# EAGLE library part STM32F4X1CX_BLACKPILL (library FansElectronics-Modul)
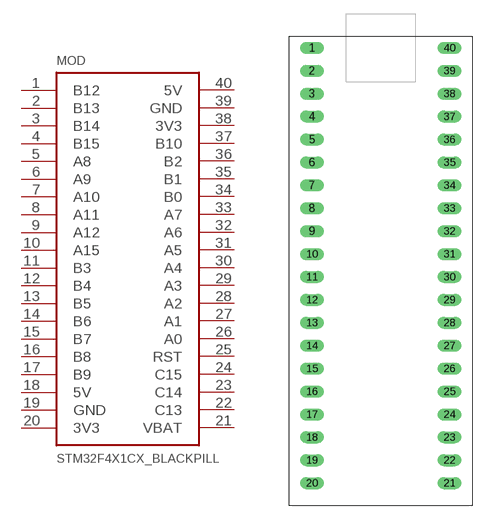
[diagram p35: symbol with the pads of STM32F4X1CX_BLACKPILL; footprint STM32F4X1CX_BLACKPILL]

Designator prefix MOD

## STM32F4X1CX_BLACKPILL  [STM32F4X1CX_BLACKPILL]
1  B12
2  B13
3  B14
4  B15
5  A8
6  A9
7  A10
8  A11
9  A12
10  A15
11  B3
12  B4
13  B5
14  B6
15  B7
16  B8
17  B9
18  5V  pwr
19  GND  pwr
20  3V3  pwr
21  VBAT  pwr
22  C13
23  C14
24  C15
25  RST
26  A0
27  A1
28  A2
29  A3
30  A4
31  A5
32  A6
33  A7
34  B0
35  B1
36  B2
37  B10
38  3V3  pwr
39  GND  pwr
40  5V  pwr

## Footprint STM32F4X1CX_BLACKPILL (pad centres in mm)
drill 0.8 long: 1 -7.62,25.4; 2 -7.62,22.86; 3 -7.62,20.32; 4 -7.62,17.78; 5 -7.62,15.24; 6 -7.62,12.7; 7 -7.62,10.16; 8 -7.62,7.62; 9 -7.62,5.08; 10 -7.62,2.54; 11 -7.62,0; 12 -7.62,-2.54; 13 -7.62,-5.08; 14 -7.62,-7.62; 15 -7.62,-10.16; 16 -7.62,-12.7; 17 -7.62,-15.24; 18 -7.62,-17.78; 19 -7.62,-20.32; 20 -7.62,-22.86; 21 7.62,-22.86; 22 7.62,-20.32; 23 7.62,-17.78; 24 7.62,-15.24; 25 7.62,-12.7; 26 7.62,-10.16; 27 7.62,-7.62; 28 7.62,-5.08; 29 7.62,-2.54; 30 7.62,0; 31 7.62,2.54; 32 7.62,5.08; 33 7.62,7.62; 34 7.62,10.16; 35 7.62,12.7; 36 7.62,15.24; 37 7.62,17.78; 38 7.62,20.32; 39 7.62,22.86; 40 7.62,25.4